# Altium schematic symbol library Q.SchLib: 13 symbols
Pins are listed as number, name and electrical type; pins without a type are passive.

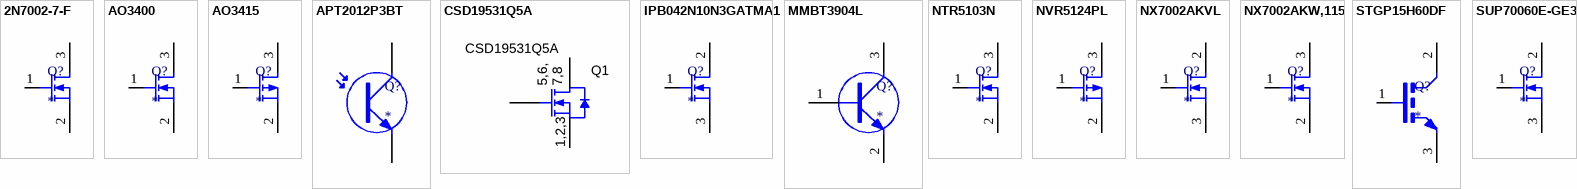
[diagram p0: symbols 2N7002-7-F to SUP70060E-GE3]

## 2N7002-7-F
designator Q?
MOSFET 60V 200mW
footprint SOT-23-3 (SOT-23; 3 Leads; Body 3.0 x 2.5 mm, inc. leads (LxW max))
pins: 1 G, 2 S, 3 D

## AO3400
designator Q?
30V N-Channel MOSFET
footprint SOT-23-3 (SOT-23; 3 Leads; Body 3.0 x 2.5 mm, inc. leads (LxW max))
pins: 1 G, 2 S, 3 D

## AO3415
designator Q?
20V P-Channel MOSFET
footprint SOT-23-3 (SOT-23; 3 Leads; Body 3.0 x 2.5 mm, inc. leads (LxW max))
pins: 1 G, 2 S, 3 D

## APT2012P3BT
designator Q?
Phototransistors Blue Trans 1 mA
footprint PHOTOTRANSITOR 0805 (Body 2.0 x 1.2 mm (LxW typ))
pins: 1 E, 2 C

## CSD19531Q5A
designator Q1
100V 100A VSONP-8 5.3mOhm Pwr MOSFET; Manufacturer: Texas Instruments; Value2: 48 nC; QgTyp_nC: 48; SizeAreaWB_mm2: 56; SizeArea_mm2: 30; SizeX_mm: 6; SizeY_mm: 5; SizeZ_mm: 1; PartNumber: CSD19531Q5A; Value: 100V; VdsMax_V: 100V; Vgs_V: 100V; IdsMax_A: 100A; RoHS: Y; ComponentLink1Description: Datasheet link
footprint VSONP-8 (SON, 8-Leads, Body 5x6mm)
pins: 1 S, 2 S, 3 S, 4 G, 5 D, 6 D, 7 D, 8 D, 9 D
text: 5,6,; 7,8; 1,2,3

## IPB042N10N3GATMA1
designator Q?
100V D2PAK 4.2mOhm N-MOSFET
footprint TO-263-3 (D2PAK)
pins: 1 G, 2 D, 3 S

## MMBT3904L
designator Q?
40V NPN BJT
footprint SOT-23-3 (SOT-23; 3 Leads; Body 3.0 x 2.5 mm, inc. leads (LxW max))
pins: 1 B, 2 E, 3 C

## NTR5103N
designator Q?
MOSFET NFET SOT23 60V 310MA 2.5
footprint SOT-23-3 (SOT-23; 3 Leads; Body 3.0 x 2.5 mm, inc. leads (LxW max))
pins: 1 G, 2 S, 3 D

## NVR5124PL
designator Q?
60V P Channel Mosfet
footprint SOT-23-3 (SOT-23; 3 Leads; Body 3.0 x 2.5 mm, inc. leads (LxW max))
pins: 1 G, 2 S, 3 D

## NX7002AKVL
designator Q?
MOSFET 60V 190mA
footprint SOT-23-3 (SOT-23; 3 Leads; Body 3.0 x 2.5 mm, inc. leads (LxW max))
pins: 1 G, 2 S, 3 D

## NX7002AKW,115
designator Q?
MOSFET 60V 200mW
footprint SOT-363-3 (SOT-36-3 / SC-70)
pins: 1 G, 2 S, 3 D

## STGP15H60DF
designator Q?
600V 15A IGBT
footprint TO-220 (TO, Thru-Hole, Vertical, Heatsink Mounted; 3 In-Line Leads; Pitch 2.54 mm)
pins: 1 G, 2 S, 3 D

## SUP70060E-GE3
designator Q?
100V TO-220 5.8mOhm N-MOSFET
footprint TO-220 (TO, Thru-Hole, Vertical, Heatsink Mounted; 3 In-Line Leads; Pitch 2.54 mm)
footprint TO-220 - Horizontal (TO, Thru-Hole, Horizontal, Heatsink Mounted; 3 In-Line Leads; Pitch 2.54 mm)
footprint TO-220 - Horizontal Inverted (TO, Thru-Hole, Horizontal Inverted, Heatsink Mounted; 3 In-Line Leads; Pitch 2.54 mm)
pins: 1 G, 2 D, 3 S